# EAGLE library part IC_44 (library atmel_prototype_header)
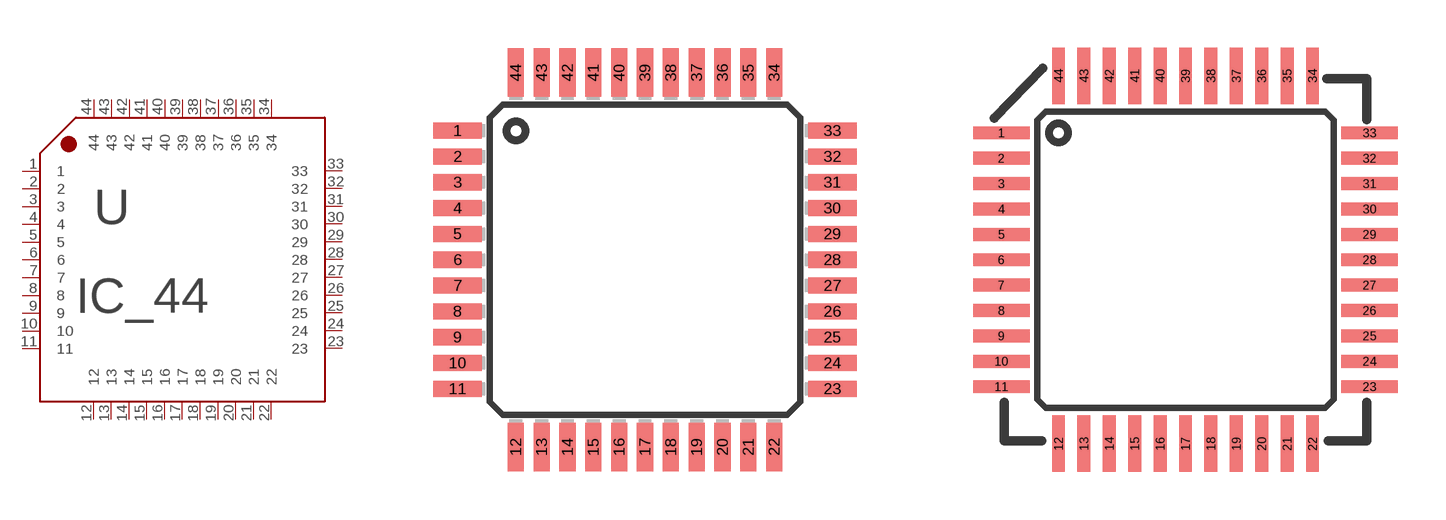
[diagram p11: symbol with the pads of TQFP-44; footprints TQFP-44, TQFP-44_EZ]

Designator prefix U

## IC_44_TQFP  [TQFP-44]
1  1
2  2
3  3
4  4
5  5
6  6
7  7
8  8
9  9
10  10
11  11
12  12
13  13
14  14
15  15
16  16
17  17
18  18
19  19
20  20
21  21
22  22
23  23
24  24
25  25
26  26
27  27
28  28
29  29
30  30
31  31
32  32
33  33
34  34
35  35
36  36
37  37
38  38
39  39
40  40
41  41
42  42
43  43
44  44

## IC_44_TQFP_EZ  [TQFP-44_EZ]
Pads as for TQFP-44

## IC_44_35  [HEADER_DUALSQR44_35]
Pads as for TQFP-44

## IC_44_43  [HEADER_DUALSQR44_43]
Pads as for TQFP-44

## Footprint TQFP-44 (pad centres in mm)
smd 1.5 x 0.5: 1 -5.8,4; 2 -5.8,3.2; 3 -5.8,2.4; 4 -5.8,1.6; 5 -5.8,0.8; 6 -5.8,0; 7 -5.8,-0.8; 8 -5.8,-1.6; 9 -5.8,-2.4; 10 -5.8,-3.2; 11 -5.8,-4; 23 5.8,-4; 24 5.8,-3.2; 25 5.8,-2.4; 26 5.8,-1.6; 27 5.8,-0.8; 28 5.8,0; 29 5.8,0.8; 30 5.8,1.6; 31 5.8,2.4; 32 5.8,3.2; 33 5.8,4
smd 0.5 x 1.5: 12 -4,-5.8; 13 -3.2,-5.8; 14 -2.4,-5.8; 15 -1.6,-5.8; 16 -0.8,-5.8; 17 0,-5.8; 18 0.8,-5.8; 19 1.6,-5.8; 20 2.4,-5.8; 21 3.2,-5.8; 22 4,-5.8; 34 4,5.8; 35 3.2,5.8; 36 2.4,5.8; 37 1.6,5.8; 38 0.8,5.8; 39 0,5.8; 40 -0.8,5.8; 41 -1.6,5.8; 42 -2.4,5.8; 43 -3.2,5.8; 44 -4,5.8

## Footprint TQFP-44_EZ (pad centres in mm)
smd 1.778 x 0.406: 1 -5.8,4; 2 -5.8,3.2; 3 -5.8,2.4; 4 -5.8,1.6; 5 -5.8,0.8; 6 -5.8,0; 7 -5.8,-0.8; 8 -5.8,-1.6; 9 -5.8,-2.4; 10 -5.8,-3.2; 11 -5.8,-4; 23 5.8,-4; 24 5.8,-3.2; 25 5.8,-2.4; 26 5.8,-1.6; 27 5.8,-0.8; 28 5.8,0; 29 5.8,0.8; 30 5.8,1.6; 31 5.8,2.4; 32 5.8,3.2; 33 5.8,4
smd 0.406 x 1.778: 12 -4,-5.8; 13 -3.2,-5.8; 14 -2.4,-5.8; 15 -1.6,-5.8; 16 -0.8,-5.8; 17 0,-5.8; 18 0.8,-5.8; 19 1.6,-5.8; 20 2.4,-5.8; 21 3.2,-5.8; 22 4,-5.8; 34 4,5.8; 35 3.2,5.8; 36 2.4,5.8; 37 1.6,5.8; 38 0.8,5.8; 39 0,5.8; 40 -0.8,5.8; 41 -1.6,5.8; 42 -2.4,5.8; 43 -3.2,5.8; 44 -4,5.8

## Footprint HEADER_DUALSQR44_35 (pad centres in mm)
drill 0.9 square: 1 -8.89,6.35
drill 0.9: 2 -11.43,3.81; 3 -8.89,3.81; 4 -11.43,1.27; 5 -8.89,1.27; 6 -11.43,-1.27; 7 -8.89,-1.27; 8 -11.43,-3.81; 9 -8.89,-3.81; 10 -11.43,-6.35; 11 -8.89,-6.35; 12 -6.35,-8.89; 13 -3.81,-11.43; 14 -3.81,-8.89; 15 -1.27,-11.43; 16 -1.27,-8.89; 17 1.27,-11.43; 18 1.27,-8.89; 19 3.81,-11.43; 20 3.81,-8.89; 21 6.35,-11.43; 22 6.35,-8.89; 23 8.89,-6.35; 24 11.43,-3.81; 25 8.89,-3.81; 26 11.43,-1.27; 27 8.89,-1.27; 28 11.43,1.27; 29 8.89,1.27; 30 11.43,3.81; 31 8.89,3.81; 32 11.43,6.35; 33 8.89,6.35; 34 6.35,8.89; 35 3.81,11.43; 36 3.81,8.89; 37 1.27,11.43; 38 1.27,8.89; 39 -1.27,11.43; 40 -1.27,8.89; 41 -3.81,11.43; 42 -3.81,8.89; 43 -6.35,11.43; 44 -6.35,8.89
hole 0.9 at -11.43,6.35
hole 0.9 at -6.35,-11.43
hole 0.9 at 11.43,-6.35
hole 0.9 at 6.35,11.43

## Footprint HEADER_DUALSQR44_43 (pad centres in mm)
drill 1.1 square: 1 -8.89,6.35
drill 1.1: 2 -11.43,3.81; 3 -8.89,3.81; 4 -11.43,1.27; 5 -8.89,1.27; 6 -11.43,-1.27; 7 -8.89,-1.27; 8 -11.43,-3.81; 9 -8.89,-3.81; 10 -11.43,-6.35; 11 -8.89,-6.35; 12 -6.35,-8.89; 13 -3.81,-11.43; 14 -3.81,-8.89; 15 -1.27,-11.43; 16 -1.27,-8.89; 17 1.27,-11.43; 18 1.27,-8.89; 19 3.81,-11.43; 20 3.81,-8.89; 21 6.35,-11.43; 22 6.35,-8.89; 23 8.89,-6.35; 24 11.43,-3.81; 25 8.89,-3.81; 26 11.43,-1.27; 27 8.89,-1.27; 28 11.43,1.27; 29 8.89,1.27; 30 11.43,3.81; 31 8.89,3.81; 32 11.43,6.35; 33 8.89,6.35; 34 6.35,8.89; 35 3.81,11.43; 36 3.81,8.89; 37 1.27,11.43; 38 1.27,8.89; 39 -1.27,11.43; 40 -1.27,8.89; 41 -3.81,11.43; 42 -3.81,8.89; 43 -6.35,11.43; 44 -6.35,8.89
hole 1.1 at -11.43,6.35
hole 1.1 at -6.35,-11.43
hole 1.1 at 11.43,-6.35
hole 1.1 at 6.35,11.43